# Altium footprint library LTM8052EY#PBF.PcbLib: 1 footprints
Each footprint in its own frame and in the unit in brackets; x right, y up, seen from the top. Pads: shape width x height; smd on the part's side, far side on the other; paste and mask are expansions set on the pad; w line width, h text height; cw(c..) or ccw(c..) is an arc to the next point about the centre after c.
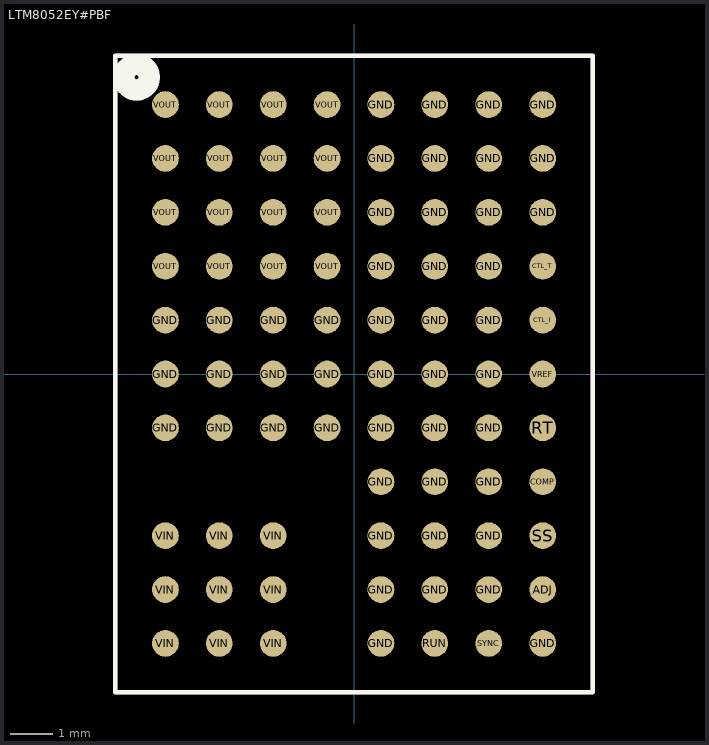
[diagram p0: the footprint, top view; thin cyan lines are the x and y axes]

## LTM8052EY#PBF [mm]
height 0.9
pads (81):
  rrect100% 0.63x0.63 smd: ADJ(4.45,-5.08) COMP(4.45,-2.54) CTL_I(4.45,1.27) CTL_T(4.45,2.54) GND(-4.445,-1.27) GND(-4.445,0) GND(-4.445,1.27) GND(-3.175,-1.27) GND(-3.175,0) GND(-3.175,1.27) GND(-1.905,-1.27) GND(-1.905,0) GND(-1.905,1.27) GND(-0.635,-1.27) GND(-0.635,0) GND(-0.635,1.27) GND(0.635,-6.35) GND(0.635,-5.08) GND(0.635,-3.81) GND(0.635,-2.54) GND(0.635,-1.27) GND(0.635,0) GND(0.635,1.27) GND(0.635,2.54) GND(0.635,3.81) GND(0.635,5.08) GND(0.635,6.35) GND(1.905,-5.08) GND(1.905,-3.81) GND(1.905,-2.54) GND(1.905,-1.27) GND(1.905,0) GND(1.905,1.27) GND(1.905,2.54) GND(1.905,3.81) GND(1.905,5.08) GND(1.905,6.35) GND(3.175,-5.08) GND(3.175,-3.81) GND(3.175,-2.54) GND(3.175,-1.27) GND(3.175,0) GND(3.175,1.27) GND(3.175,2.54) GND(3.175,3.81) GND(3.175,5.08) GND(3.175,6.35) GND(4.45,-6.35) GND(4.45,3.81) GND(4.45,5.08) GND(4.45,6.35) RT(4.45,-1.27) RUN(1.905,-6.35) SS(4.45,-3.81) SYNC(3.175,-6.35) VIN(-4.445,-6.35) VIN(-4.445,-5.08) VIN(-4.445,-3.81) VIN(-3.175,-6.35) VIN(-3.175,-5.08) VIN(-3.175,-3.81) VIN(-1.905,-6.35) VIN(-1.905,-5.08) VIN(-1.905,-3.81) VOUT(-4.445,2.54) VOUT(-4.445,3.81) VOUT(-4.445,5.08) VOUT(-4.445,6.35) VOUT(-3.175,2.54) VOUT(-3.175,3.81) VOUT(-3.175,5.08) VOUT(-3.175,6.35) VOUT(-1.905,2.54) VOUT(-1.905,3.81) VOUT(-1.905,5.08) VOUT(-1.905,6.35) VOUT(-0.635,2.54) VOUT(-0.635,3.81) VOUT(-0.635,5.08) VOUT(-0.635,6.35) VREF(4.45,0)
Top Overlay:
  circle w0.5: c-5.125,6.995 r0.3
  lines w0.1: -5.625,-7.5 5.625,-7.5 5.625,7.5 -5.625,7.5 -5.625,-7.5
Top Assembly:
  circle w0.5: c-5.125,7 r0.3
  lines w0.1: -5.625,-7.5 5.625,-7.5 5.625,7.5 -5.625,7.5 -5.625,-7.5
  text "'.Designator'" at 0,0 h0.7
3D body "LTM8052EY#PBF.stp": height 3.62, standoff 0, extent -5.625,-7.5 5.625,7.5